# EAGLE library part MC34063 (library IntegratedLib)
Conversor DC-DC (SOIC-8)
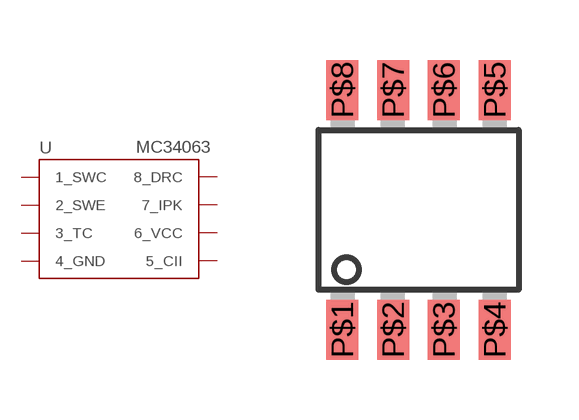
[diagram p14: symbol with the pads of SOIC-8; footprint SOIC-8]

Designator prefix U

## MC34063 (FABRICANTE: ST; PARTNUMBER: MC34063; TIPO: CIRCUITO INTEGRADO)  [SOIC-8]
P$1  1_SWC
P$2  2_SWE
P$3  3_TC
P$4  4_GND
P$5  5_CII
P$6  6_VCC
P$7  7_IPK
P$8  8_DRC

## Footprint SOIC-8 (pad centres in mm)
smd 0.8 x 1.5: P$1 -1.905,-3; P$2 -0.635,-3; P$3 0.635,-3; P$4 1.905,-3; P$5 1.905,3; P$6 0.635,3; P$7 -0.635,3; P$8 -1.905,3